# EAGLE library part 62101021921 (library Header_R_ESP32)
2.00mm SMT Straight Dual Pin Header WR-PHD Manufacturer's datasheet <https://katalog.we-online.com/em/datasheet/62101021921.pdf>
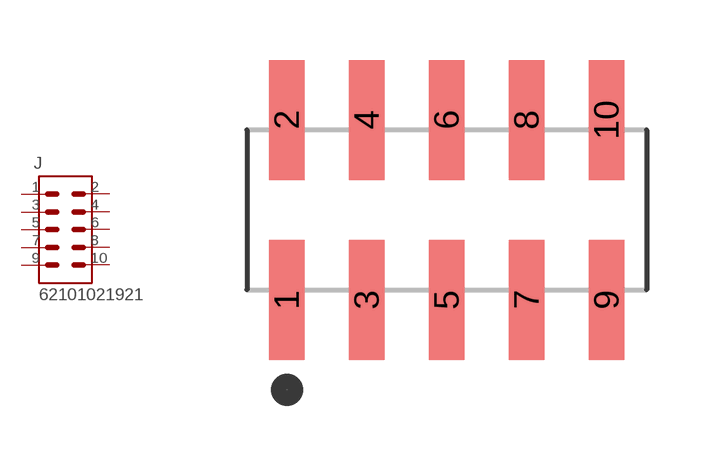
[diagram p19: symbol with the pads of 62101021921; footprint 62101021921]

Designator prefix J

## 62101021921 (CREATED_BY: PCBLayout.com; MANUFACTURER: Wurth Elektronik; MPN: 62101021921)  [62101021921]
1  1  pas
2  2  pas
3  3  pas
4  4  pas
5  5  pas
6  6  pas
7  7  pas
8  8  pas
9  9  pas
10  10  pas

## Footprint 62101021921 (pad centres in mm)
smd 0.89 x 3: 1 -4,-2.25; 2 -4,2.25; 3 -2,-2.25; 4 -2,2.25; 5 0,-2.25; 6 0,2.25; 7 2,-2.25; 8 2,2.25; 9 4,-2.25; 10 4,2.25